# EAGLE library part E01-ML01D (library SpaceDIY_connectors)
E01-ML01D 2.4 GHz RF Transceptor Module Based on the nRF24L01+ IC
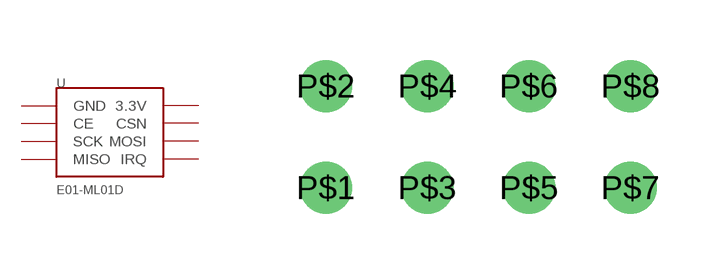
[diagram p2: symbol with the pads of E01-ML01D; footprint E01-ML01D]

Designator prefix -

## E01-ML01D  [E01-ML01D]
P$1  GND
P$2  3.3V
P$3  CE
P$4  CSN
P$5  SCK
P$6  MOSI
P$7  MISO
P$8  IRQ

## Footprint E01-ML01D (pad centres in mm)
drill 0.8: P$1 2.45,1.25; P$2 2.45,3.79; P$3 4.99,1.25; P$4 4.99,3.79; P$5 7.53,1.25; P$6 7.53,3.79; P$7 10.07,1.25; P$8 10.07,3.79